# Altium schematic symbol library LTC4121-4.2.Schlib: 1 symbol
Pins are listed as number, name and electrical type; pins without a type are passive.

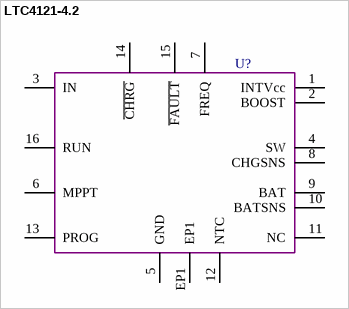
[diagram p0: symbol LTC4121-4.2]

## LTC4121-4.2
designator U?  (value not drawn)
pins: 1 INTVcc, 2 BOOST, 3 IN (power), 4 SW, 5 GND (power), 6 MPPT, 7 FREQ, 8 CHGSNS, 9 BAT, 10 BATSNS, 11 NC, 12 NTC, 13 PROG, 14 ~{CHRG}, 15 ~{FAULT}, 16 RUN, EP1